# Altium footprint library 2014-09-02_05-44-38.PcbLib: 5 footprints
Each footprint in its own frame and in the unit in brackets; x right, y up, seen from the top. Pads: shape width x height; smd on the part's side, far side on the other; paste and mask are expansions set on the pad; w line width, h text height; cw(c..) or ccw(c..) is an arc to the next point about the centre after c.
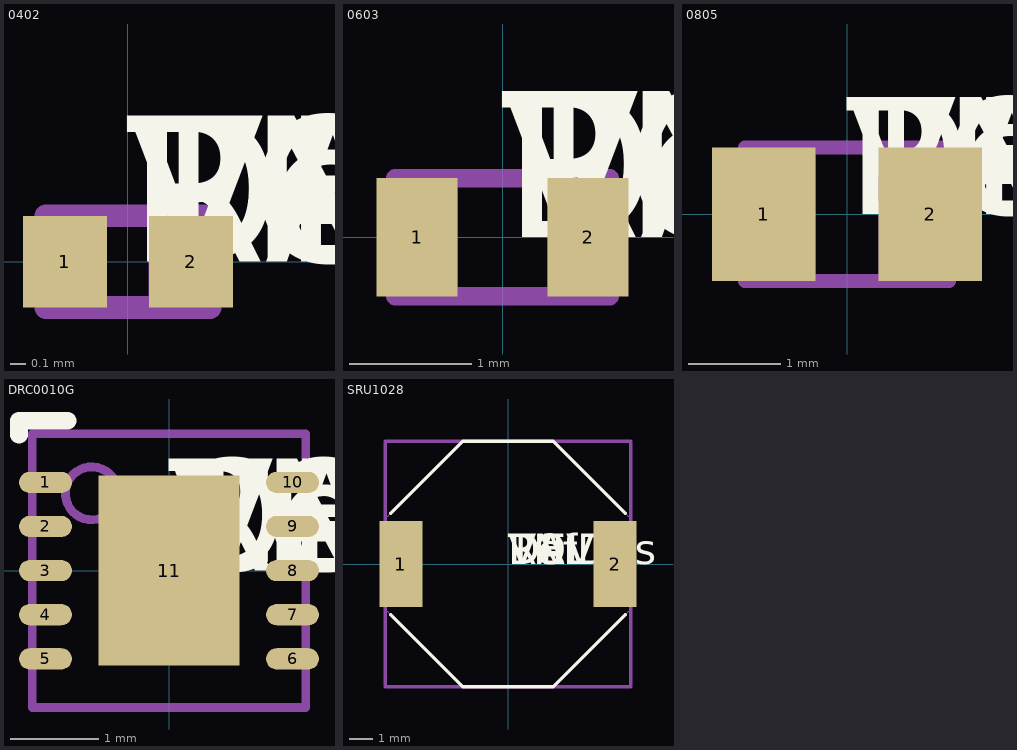
[diagram p0: the footprints below, top view; thin cyan lines are the x and y axes]

## 0402 [mil]
height 22
pads (2):
  rect 22x24 smd: 1(-16.5,0) 2(16.5,0)
Top Overlay:
  text "RefDes" at 0,0 h50
  text "DEV" at 0,0 h50
  text "PN" at 0,0 h50
  text "DEV" at 0,0 h50
  text "VAL" at 0,0 h50
  text "TOL" at 0,0 h50
Mechanical 1:
  lines w6: -21.5,-12 -21.5,12 21.5,12 21.5,-12 -21.5,-12
  text "22" at 0,0 h50
  text "0" at 0,0 h50
Mechanical 13:
  lines w0: -21.5,-12 -21.5,12 ; -21.5,-12 -5.5,-12 -5.5,12 -21.5,12 ; -21.5,-12 21.5,-12 ; -21.5,-12 -21.5,12 ; -21.5,12 21.5,12 ; 21.5,-12 5.5,-12 5.5,12 21.5,12 ; 21.5,-12 21.5,12 ; 21.5,-12 21.5,12
  text "RefDes2" at 0,0 h50

## 0603 [mil]
height 20
pads (2):
  rect 26x38 smd: 1(-27.5,0) 2(27.5,0)
Top Overlay:
  text "RefDes" at 0,0 h50
  text "DEV" at 0,0 h50
  text "PN" at 0,0 h50
  text "DEV" at 0,0 h50
  text "VAL" at 0,0 h50
  text "TOL" at 0,0 h50
Mechanical 1:
  lines w6: -34.5,-19 -34.5,19 34.5,19 34.5,-19 -34.5,-19
  text "20" at 0,0 h50
  text "0" at 0,0 h50
Mechanical 13:
  lines w0: -34.5,-19 -34.5,19 ; -34.5,-19 -14.5,-19 -14.5,19 -34.5,19 ; -34.5,-19 34.5,-19 ; -34.5,-19 -34.5,19 ; -34.5,19 34.5,19 ; 34.5,-19 14.5,-19 14.5,19 34.5,19 ; 34.5,-19 34.5,19 ; 34.5,-19 34.5,19
  text "RefDes2" at 0,0 h50

## 0805 [mil]
height 57
pads (2):
  rect 44x57 smd: 1(-35.5,0) 2(35.5,0)
Top Overlay:
  text "RefDes" at 0,0 h50
  text "DEV" at 0,0 h50
  text "PN" at 0,0 h50
  text "DEV" at 0,0 h50
  text "VAL" at 0,0 h50
  text "TOL" at 0,0 h50
Mechanical 1:
  lines w6: -43.5,-28.5 -43.5,28.5 43.5,28.5 43.5,-28.5 -43.5,-28.5
  text "57" at 0,0 h50
  text "0" at 0,0 h50
Mechanical 13:
  lines w0: -43.5,-28.5 -43.5,28.5 ; -43.5,-28.5 -13.5,-28.5 -13.5,28.5 -43.5,28.5 ; -43.5,-28.5 43.5,-28.5 ; -43.5,-28.5 -43.5,28.5 ; -43.5,28.5 43.5,28.5 ; 43.5,-28.5 13.5,-28.5 13.5,28.5 43.5,28.5 ; 43.5,-28.5 43.5,28.5 ; 43.5,-28.5 43.5,28.5
  text "RefDes2" at 0,0 h50

## DRC0010G [mm]
pads (11):
  oval 0.6x0.24 smd paste-0.102 mask+0.051: 1(-1.4,1) 2(-1.4,0.5) 3(-1.4,0) 4(-1.4,-0.5) 5(-1.4,-1) 6(1.4,-1) 7(1.4,-0.5) 8(1.4,0) 9(1.4,0.5) 10(1.4,1)
  rect 1.6x2.15 smd paste-0.825 mask+0.051: 11(0,0)
Top Overlay:
  lines w0.2: -1.7,1.54 -1.7,1.7 -1.15,1.7
  text "Comment" at 0,0 h1.27
  text "RefDes" at 0,0 h1.27
  text "DEV" at 0,0 h1.27
  text "PN" at 0,0 h1.27
  text "DEV" at 0,0 h1.27
  text "VAL" at 0,0 h1.27
  text "TOL" at 0,0 h1.27
Top Paste:
  region: -0.685,1.039 -0.685,0.1 0.681,0.1 0.681,1.039
  region: -0.69,-0.1 -0.69,-1.039 0.676,-1.039 0.676,-0.1
Top Solder:
  region: 0.756,-1.551 0.756,-0.999 0.474,-0.999 0.474,-1.551
  region: 0.346,-1.551 0.346,-0.999 0.064,-0.999 0.064,-1.551
  region: -0.064,-1.551 -0.064,-0.999 -0.346,-0.999 -0.346,-1.551
  region: -0.474,-1.551 -0.474,-0.999 -0.756,-0.999 -0.756,-1.551
  region: -0.474,0.999 -0.474,1.551 -0.756,1.551 -0.756,0.999
  region: -0.064,0.999 -0.064,1.551 -0.346,1.551 -0.346,0.999
  region: 0.346,0.999 0.346,1.551 0.064,1.551 0.064,0.999
  region: 0.756,0.999 0.756,1.551 0.474,1.551 0.474,0.999
Mechanical 1:
  circle w0.1: c-0.875,0.875 r0.3
  lines w0.1: -1.55,-1.55 1.55,-1.55 1.55,1.55 -1.55,1.55 -1.55,-1.55
  text ".Designator" at -1.42,-0.425 h1.27
Mechanical 13:
  circle w0.1: c-0.875,0.875 r0.3
  lines w0.1: -1.55,-1.55 1.55,-1.55 1.55,1.55 -1.55,1.55 -1.55,-1.55
  text ".Designator" at -1.42,-0.425 h1.27

## SRU1028 [mil]
pads (2):
  rect 71x142 smd: 1(-177,0) 2(177,0)
Top Overlay:
  lines w6: -193.9,-84.1 -75,-203 75,-203 193.9,-84.1 ; -193.9,84.1 -75,203 75,203 193.9,84.1
  text "RefDes" at 0,0 h50
  text "DEV" at 0,0 h50
  text "PN" at 0,0 h50
  text "DEV" at 0,0 h50
  text "VAL" at 0,0 h50
  text "TOL" at 0,0 h50
Mechanical 1:
  lines w6: -203,-203 203,-203 203,203 -203,203 -203,-203
Mechanical 13:
  lines w0: -203,-75 -75,-203 75,-203 203,-75 203,75 75,203 -75,203 -203,75 -203,-75
  text "RefDes2" at 0,0 h50